# Altium integrated library Infineon_Sensor_IC.IntLib: 87 symbols (part 2 of 3)
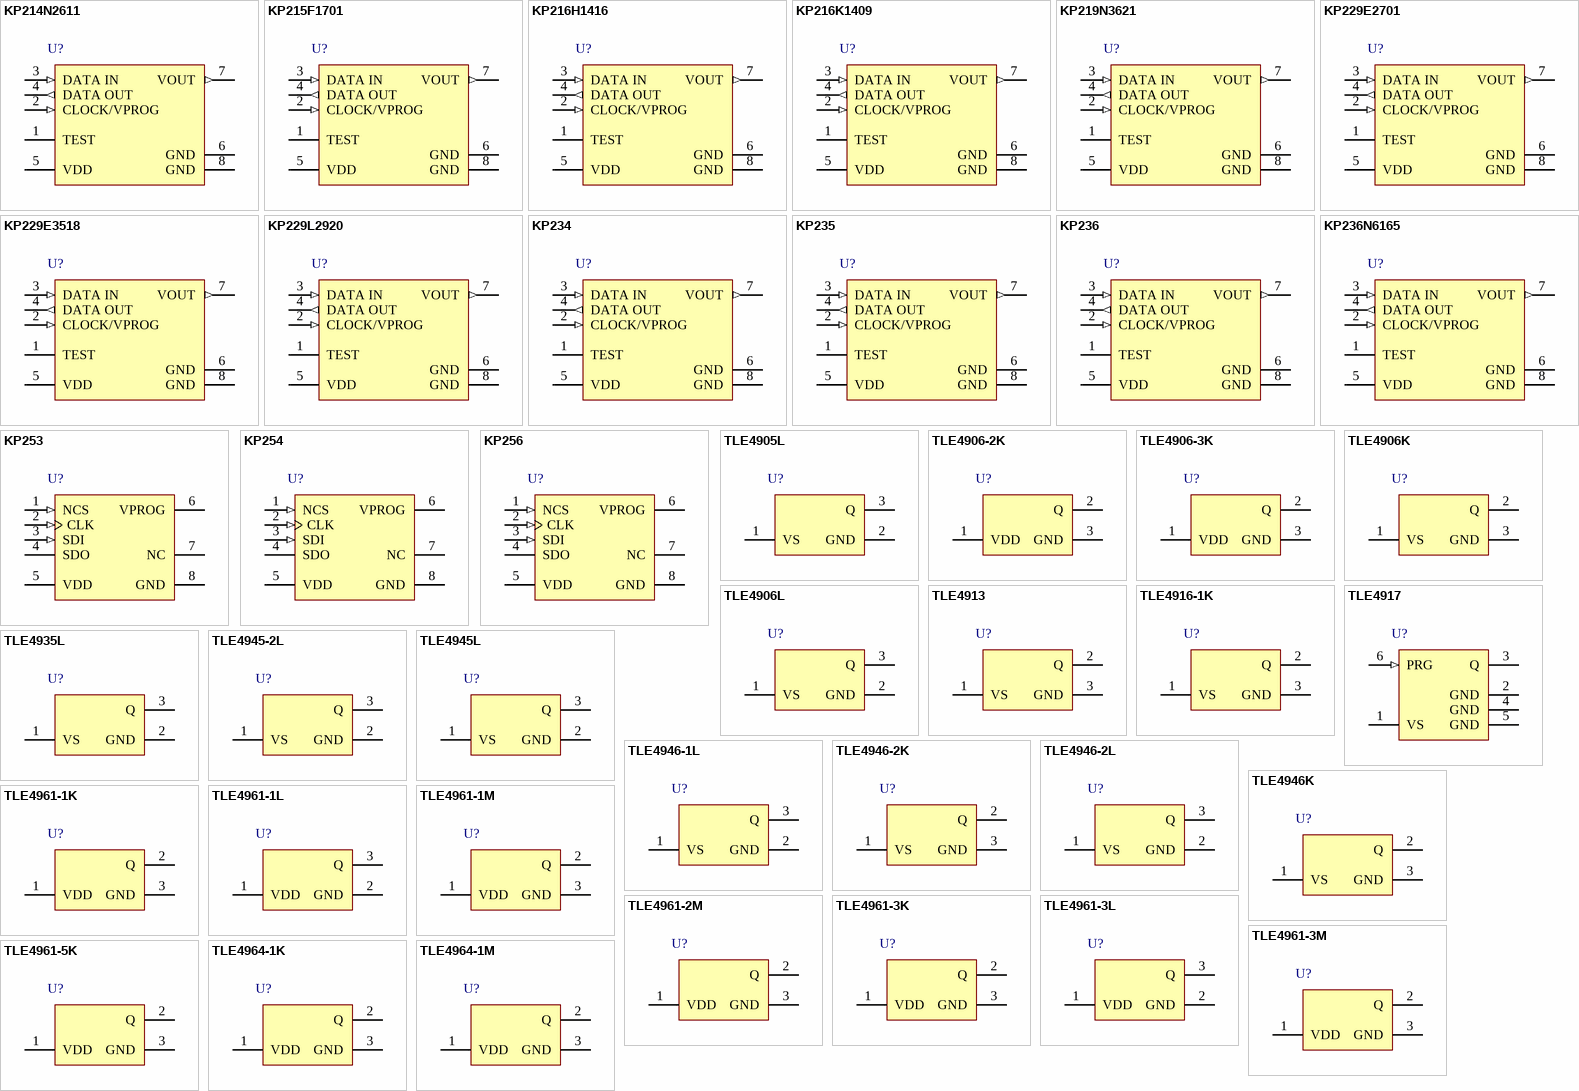
[diagram p3: symbols KP214N2611 to TLE4964-1M]

## TLE4961-2M
designator U?
High Precision Automotive Hall Effect Latch, PG-SOT23-3-15, Reel, Green; Manufacturer: Infineon; PartNumber: TLE4961-2M; Bhyst (25degreesC) max: 10 mT; Bop (25degreesC) min: 5 mT; Chopped Hall Technology: TRUE; Direction Detection: FALSE; Interface: open collector; DatasheetVersion: Rev. 1.0; PackageVersion: Apr-08; PackageReference: PG-SOT23-3-15; PackageDescription: 3-Pin Small Outline Transistor Package, 2.9 x 1.3 mm Body, 0.95 mm Pitch; Brp (25degreesC) typ: 5 mT; Green: TRUE; Halogen-free: TRUE; Packing: Reel; Target Application: Automotive; Type: Latch; Mounting Technology: Surface Mount; ComponentLink1Description: Manufacturer URL; ComponentLink1URL: http://www.infineon.com/; ComponentLink2Description: Datasheet; ComponentLink2URL: http://www.infineon.com/dgdl/TLE4961-2M_FinalDS_Rev1.pdf?folderId=db3a30431ce5fb52011d29818c631b6b&fileId=db3a30433cabdd35013cc965173b6517; ComponentLink3Description: Package Specification; ComponentLink3URL: http://www.infineon.com/dgdl/SOT23-Package_Overview.pdf?folderId=db3a30431936bc4b0119532290053c66&fileId=db3a30431936bc4b0119533468123c85
footprint INF-PG-SOT23-3-15_N (SOT23, 3-Leads, Body 2.9x1.3mm, Pitch 0.95mm, IPC Medium Density)
footprint INF-PG-SOT23-3-15_L (SOT23, 3-Leads, Body 2.9x1.3mm, Pitch 0.95mm, IPC High Density)
footprint INF-PG-SOT23-3-15_M (SOT23, 3-Leads, Body 2.9x1.3mm, Pitch 0.95mm, IPC Low Density)
pins: 1 VDD (power) "Supply voltage", 2 Q (oc) "Output", 3 GND (power) "Ground"

## TLE4961-3K
designator U?
High Precision Automotive Hall Effect Latch, -40 to 170 degC, PG-SC59, Reel, Green; Manufacturer: Infineon; PartNumber: TLE4961-3K; Bhyst (25degreesC) max: 15.0 mT; Bop (25degreesC) min: 7.5 mT; Brp (25degreesC) typ: -7.5 mT; Chopped Hall Technology: TRUE; Direction Detection: FALSE; Interface: open collector; DatasheetVersion: Rev. 1.0; PackageVersion: Mar-08; PackageReference: PG-SC59; PackageDescription: 3-Pin Semiconductor Package, 3 x 1.53 mm Body, 0.95 mm Pitch; Green: TRUE; Halogen-free: TRUE; Packing: Reel; Target Application: Automotive; Type: Latch; Mounting Technology: Surface Mount; ComponentLink1Description: Manufacturer URL; ComponentLink1URL: http://www.infineon.com/; ComponentLink2Description: Datasheet; ComponentLink2URL: http://www.infineon.com/dgdl/TLE4961-3K_DS_Rev1.0.pdf?folderId=db3a30431ce5fb52011d29818c631b6b&fileId=db3a3043397219b601397247ed8d0030; ComponentLink3Description: Package Specification; ComponentLink3URL: http://www.infineon.com/dgdl/SC59-Package_Overview.pdf?folderId=db3a30431936bc4b01194dc0d34440b0&fileId=db3a30431936bc4b01194dd1aa1d40cf
footprint INF-PG-SC59_N (SOT23, 3-Leads, Body 3x1.53mm, Pitch 0.95mm, IPC Medium Density)
footprint INF-PG-SC59_L (SOT23, 3-Leads, Body 3x1.53mm, Pitch 0.95mm, IPC High Density)
footprint INF-PG-SC59_M (SOT23, 3-Leads, Body 3x1.53mm, Pitch 0.95mm, IPC Low Density)
pins: 1 VDD (power) "Supply voltage", 2 Q (oc) "Output", 3 GND (power) "Ground"

## TLE4961-3L
designator U?
High Precision Automotive Hall Effect Latch, -40 to 170 degC, PG-SSO-3-2, AMMO-PACK, Green; Manufacturer: Infineon; PartNumber: TLE4961-3L; Bhyst (25degreesC) max: 15 mT; Bop (25degreesC) min: 7.5 mT; Brp (25degreesC) typ: -7.5 mT; Chopped Hall Technology: TRUE; Direction Detection: FALSE; Interface: open collector; DatasheetVersion: Rev. 1.0; PackageVersion: Jul-12; PackageReference: PG-SSO-3-2; PackageDescription: 3-Pin Plastic (Green) Single Small Outline, 4.16 x 3.29 mm Body, 1.27 mm Pitch; Green: TRUE; Packing: AMMO-PACK; Target Application: Automotive; Type: Latch; Mounting Technology: Through Hole; ComponentLink1Description: Manufacturer URL; ComponentLink1URL: http://www.infineon.com/; ComponentLink2Description: Datasheet; ComponentLink2URL: http://www.infineon.com/dgdl/TLE4961-3L_DS_Rev1.pdf?folderId=db3a30431ce5fb52011d29818c631b6b&fileId=db3a30433899edae0138c3c365920311; ComponentLink3Description: Package Specification; ComponentLink3URL: http://www.infineon.com/dgdl/TLE4961-1L_DS_Rev1.0.pdf?folderId=db3a30431ce5fb52011d29818c631b6b&fileId=db3a3043397219b6013977b435505444
footprint INF-PG-SSO-3-2_V (SSO, 3-Leads, Body 4.16x3.29mm, Pitch 1.27mm)
pins: 1 VDD (power) "Supply voltage", 2 GND (power) "Ground", 3 Q (oc) "Output"

## TLE4961-3M
designator U?
High Precision Automotive Hall Effect Latch, -40 to 170 degC, PG-SOT23-3-15, Reel, Green; Manufacturer: Infineon; PartNumber: TLE4961-3M; Bhyst (25degreesC) max: 15 mT; Bop (25degreesC) min: 7.5 mT; Brp (25degreesC) typ: -7.5 mT; Chopped Hall Technology: TRUE; Direction Detection: FALSE; Interface: open collector; DatasheetVersion: Rev. 1.0; PackageVersion: Apr-08; PackageReference: PG-SOT23-3-15; PackageDescription: 3-Pin Small Outline Transistor Package, 2.9 x 1.3 mm Body, 0.95 mm Pitch; Green: TRUE; Halogen-free: TRUE; Packing: Reel; Target Application: Automotive; Type: Latch; Mounting Technology: Surface Mount; ComponentLink1Description: Manufacturer URL; ComponentLink1URL: http://www.infineon.com/; ComponentLink2Description: Datasheet; ComponentLink2URL: http://www.infineon.com/dgdl/TLE4961-3M_DS_Rev1.0.pdf?folderId=db3a30431ce5fb52011d29818c631b6b&fileId=db3a304338ec6d390138fc7ad91376ac; ComponentLink3Description: Package Specification; ComponentLink3URL: http://www.infineon.com/dgdl/SOT23-Package_Overview.pdf?folderId=db3a30431936bc4b0119532290053c66&fileId=db3a30431936bc4b0119533468123c85
footprint INF-PG-SOT23-3-15_N (SOT23, 3-Leads, Body 2.9x1.3mm, Pitch 0.95mm, IPC Medium Density)
footprint INF-PG-SOT23-3-15_L (SOT23, 3-Leads, Body 2.9x1.3mm, Pitch 0.95mm, IPC High Density)
footprint INF-PG-SOT23-3-15_M (SOT23, 3-Leads, Body 2.9x1.3mm, Pitch 0.95mm, IPC Low Density)
pins: 1 VDD (power) "Supply voltage", 2 Q (oc) "Output", 3 GND (power) "Ground"

## TLE4961-5K
designator U?
High Precision Automotive Hall Effect Latch, -40 to 170 degC, PG-SC59, Reel, Green; Manufacturer: Infineon; PartNumber: TLE4961-5K; Bhyst (25degreesC) max: 30 mT; Bop (25degreesC) min: 15 mT; Brp (25degreesC) typ: -15 mT; Chopped Hall Technology: TRUE; Direction Detection: FALSE; Interface: open collector; DatasheetVersion: Rev. 1.0; PackageVersion: Mar-08; PackageReference: PG-SC59; PackageDescription: 3-Pin Semiconductor Package, 3 x 1.53 mm Body, 0.95 mm Pitch; Green: TRUE; Halogen-free: TRUE; Packing: Reel; Target Application: Automotive; Type: Latch; Mounting Technology: Surface Mount; ComponentLink1Description: Manufacturer URL; ComponentLink1URL: http://www.infineon.com/; ComponentLink2Description: Datasheet; ComponentLink2URL: http://www.infineon.com/dgdl/TLE4961-5K_DS_Rev1.0.pdf?folderId=db3a30431ce5fb52011d29818c631b6b&fileId=db3a304338ec6d390138fc81f56e76bb; ComponentLink3Description: Package Specification; ComponentLink3URL: http://www.infineon.com/dgdl/SC59-Package_Overview.pdf?folderId=db3a30431936bc4b01194dc0d34440b0&fileId=db3a30431936bc4b01194dd1aa1d40cf
footprint INF-PG-SC59_N (SOT23, 3-Leads, Body 3x1.53mm, Pitch 0.95mm, IPC Medium Density)
footprint INF-PG-SC59_L (SOT23, 3-Leads, Body 3x1.53mm, Pitch 0.95mm, IPC High Density)
footprint INF-PG-SC59_M (SOT23, 3-Leads, Body 3x1.53mm, Pitch 0.95mm, IPC Low Density)
pins: 1 VDD (power) "Supply voltage", 2 Q (oc) "Output", 3 GND (power) "Ground"

## TLE4964-1K
designator U?
High Precision Automotive Hall Effect Switch, -40 to 170 degC, PG-SC59, Reel, Green; Manufacturer: Infineon; PartNumber: TLE4964-1K; Bhyst (25degreesC) max: 5.5 mT; Bop (25degreesC) min: 18 mT; Brp (25degreesC) typ: 12.5 mT; Chopped Hall Technology: TRUE; Direction Detection: FALSE; Interface: open collector; DatasheetVersion: Rev. 1.0; PackageVersion: Mar-08; PackageReference: PG-SC59; PackageDescription: 3-Pin Semiconductor Package, 3 x 1.53 mm Body, 0.95 mm Pitch; Green: TRUE; Halogen-free: TRUE; Packing: Reel; Target Application: Automotive; Type: Unipolar; Mounting Technology: Surface Mount; ComponentLink1Description: Manufacturer URL; ComponentLink1URL: http://www.infineon.com/; ComponentLink2Description: Datasheet; ComponentLink2URL: http://www.infineon.com/dgdl/TLE4964-1K_DS_Rev1.0.pdf?folderId=db3a30431ce5fb52011d29818c631b6b&fileId=db3a304338ec6d390138fc87bfb376c5; ComponentLink3Description: Package Specification; ComponentLink3URL: http://www.infineon.com/dgdl/SC59-Package_Overview.pdf?folderId=db3a30431936bc4b01194dc0d34440b0&fileId=db3a30431936bc4b01194dd1aa1d40cf
footprint INF-PG-SC59_N (SOT23, 3-Leads, Body 3x1.53mm, Pitch 0.95mm, IPC Medium Density)
footprint INF-PG-SC59_L (SOT23, 3-Leads, Body 3x1.53mm, Pitch 0.95mm, IPC High Density)
footprint INF-PG-SC59_M (SOT23, 3-Leads, Body 3x1.53mm, Pitch 0.95mm, IPC Low Density)
pins: 1 VDD (power) "Supply voltage", 2 Q (oc) "Output", 3 GND (power) "Ground"

## TLE4964-1M
designator U?
High Precision Automotive Hall Effect Switch, -40 to 170 degC, PG-SOT23-3-15, Reel, Green; Manufacturer: Infineon; PartNumber: TLE4964-1M; Bhyst (25degreesC) max: 5.5 mT; Bop (25degreesC) min: 18 mT; Brp (25degreesC) typ: 12.5 mT; Chopped Hall Technology: TRUE; Direction Detection: FALSE; Interface: open collector; DatasheetVersion: Rev. 1.0; PackageVersion: Apr-08; PackageReference: PG-SOT23-3-15; PackageDescription: 3-Pin Small Outline Transistor Package, 2.9 x 1.3 mm Body, 0.95 mm Pitch; Green: TRUE; Halogen-free: TRUE; Packing: Reel; Target Application: Automotive; Type: Unipolar; Mounting Technology: Surface Mount; ComponentLink1Description: Manufacturer URL; ComponentLink1URL: http://www.infineon.com/; ComponentLink2Description: Datasheet; ComponentLink2URL: http://www.infineon.com/dgdl/TLE4964-1M_DS_Rev1.0.pdf?folderId=db3a30431ce5fb52011d29818c631b6b&fileId=db3a3043397219b601397256e86f0059; ComponentLink3Description: Package Specification; ComponentLink3URL: http://www.infineon.com/dgdl/SOT23-Package_Overview.pdf?folderId=db3a30431936bc4b0119532290053c66&fileId=db3a30431936bc4b0119533468123c85
footprint INF-PG-SOT23-3-15_N (SOT23, 3-Leads, Body 2.9x1.3mm, Pitch 0.95mm, IPC Medium Density)
footprint INF-PG-SOT23-3-15_L (SOT23, 3-Leads, Body 2.9x1.3mm, Pitch 0.95mm, IPC High Density)
footprint INF-PG-SOT23-3-15_M (SOT23, 3-Leads, Body 2.9x1.3mm, Pitch 0.95mm, IPC Low Density)
pins: 1 VDD (power) "Supply voltage", 2 Q (oc) "Output", 3 GND (power) "Ground"

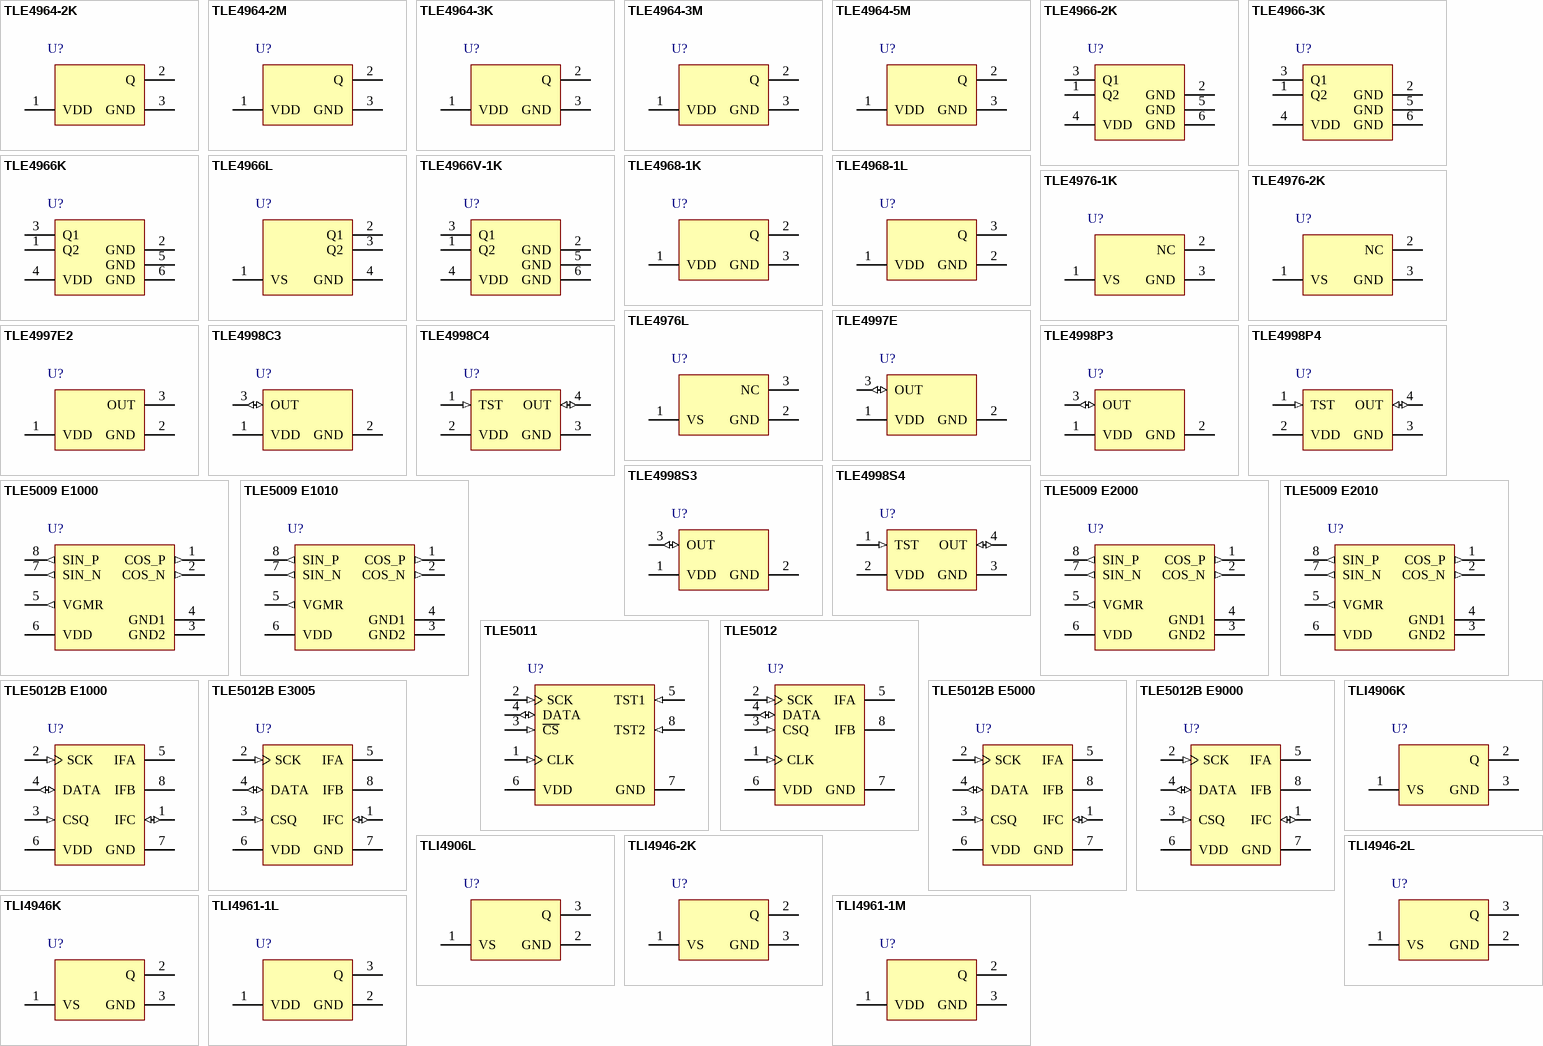
[diagram p1: symbols TLE4964-2K to TLI4961-1M]

## TLE4964-2K
designator U?
High Precision Automotive Hall Effect Switch, -40 to 170 degC, PG-SC59, Reel, Green; Manufacturer: Infineon; PartNumber: TLE4964-2K; Bhyst (25degreesC) max: 5.5 mT; Bop (25degreesC) min: 28 mT; Brp (25degreesC) typ: 22.5 mT; Chopped Hall Technology: TRUE; Direction Detection: FALSE; Interface: open collector; DatasheetVersion: Rev. 1.0; PackageVersion: Mar-08; PackageReference: PG-SC59; PackageDescription: 3-Pin Semiconductor Package, 3 x 1.53 mm Body, 0.95 mm Pitch; Green: TRUE; Halogen-free: TRUE; Packing: Reel; Target Application: Automotive; Type: Unipolar; Mounting Technology: Surface Mount; ComponentLink1Description: Manufacturer URL; ComponentLink1URL: http://www.infineon.com/; ComponentLink2Description: Datasheet; ComponentLink2URL: http://www.infineon.com/dgdl/TLE4964-2K_DS_Rev1.0.pdf?folderId=db3a30431ce5fb52011d29818c631b6b&fileId=db3a3043397219b60139725a64720065; ComponentLink3Description: Package Specification; ComponentLink3URL: http://www.infineon.com/dgdl/SC59-Package_Overview.pdf?folderId=db3a30431936bc4b01194dc0d34440b0&fileId=db3a30431936bc4b01194dd1aa1d40cf
footprint INF-PG-SC59_N (SOT23, 3-Leads, Body 3x1.53mm, Pitch 0.95mm, IPC Medium Density)
footprint INF-PG-SC59_L (SOT23, 3-Leads, Body 3x1.53mm, Pitch 0.95mm, IPC High Density)
footprint INF-PG-SC59_M (SOT23, 3-Leads, Body 3x1.53mm, Pitch 0.95mm, IPC Low Density)
pins: 1 VDD (power) "Supply voltage", 2 Q (oc) "Output", 3 GND (power) "Ground"

## TLE4964-2M
designator U?
High Precision Automotive Hall Effect Switch, -40 to 170 degC, PG-SOT23-3-15, Reel, Green; Manufacturer: Infineon; PartNumber: TLE4964-2M; Bhyst (25degreesC) max: 5.5 mT; Bop (25degreesC) min: 28 mT; Brp (25degreesC) typ: 22.5 mT; Chopped Hall Technology: TRUE; Direction Detection: FALSE; Interface: open collector; DatasheetVersion: Rev. 1.0; PackageVersion: Apr-08; PackageReference: PG-SOT23-3-15; PackageDescription: 3-Pin Small Outline Transistor Package, 2.9 x 1.3 mm Body, 0.95 mm Pitch; Green: TRUE; Halogen-free: TRUE; Packing: Reel; Target Application: Automotive; Type: Unipolar; Mounting Technology: Surface Mount; ComponentLink1Description: Manufacturer URL; ComponentLink1URL: http://www.infineon.com/; ComponentLink2Description: Datasheet; ComponentLink2URL: http://www.infineon.com/dgdl/TLE4964-2M_DS_Rev1.0.pdf?folderId=db3a30431ce5fb52011d29818c631b6b&fileId=db3a3043397219b60139725f709a006f; ComponentLink3Description: Package Specification; ComponentLink3URL: http://www.infineon.com/dgdl/SOT23-Package_Overview.pdf?folderId=db3a30431936bc4b0119532290053c66&fileId=db3a30431936bc4b0119533468123c85
footprint INF-PG-SOT23-3-15_N (SOT23, 3-Leads, Body 2.9x1.3mm, Pitch 0.95mm, IPC Medium Density)
footprint INF-PG-SOT23-3-15_L (SOT23, 3-Leads, Body 2.9x1.3mm, Pitch 0.95mm, IPC High Density)
footprint INF-PG-SOT23-3-15_M (SOT23, 3-Leads, Body 2.9x1.3mm, Pitch 0.95mm, IPC Low Density)
pins: 1 VDD (power) "Supply voltage", 2 Q (oc) "Output", 3 GND (power) "Ground"

## TLE4964-3K
designator U?
High Precision Automotive Hall Effect Switch, -40 to 170 degC, PG-SC59, Reel, Green; Manufacturer: Infineon; PartNumber: TLE4964-3K; Bhyst (25degreesC) max: 3 mT; Bop (25degreesC) min: 12.5 mT; Brp (25degreesC) typ: 9.5 mT; Chopped Hall Technology: TRUE; Direction Detection: FALSE; Interface: open collector; DatasheetVersion: Rev. 1.0; PackageVersion: Mar-08; PackageReference: PG-SC59; PackageDescription: 3-Pin Semiconductor Package, 3 x 1.53 mm Body, 0.95 mm Pitch; Green: TRUE; Halogen-free: TRUE; Packing: Reel; Target Application: Automotive; Type: Unipolar; Mounting Technology: Surface Mount; ComponentLink1Description: Manufacturer URL; ComponentLink1URL: http://www.infineon.com/; ComponentLink2Description: Datasheet; ComponentLink2URL: http://www.infineon.com/dgdl/TLE4964-3K_DS_Rev1.0.pdf?folderId=db3a30431ce5fb52011d29818c631b6b&fileId=db3a3043397219b60139779f2b9f5404; ComponentLink3Description: Package Specification; ComponentLink3URL: http://www.infineon.com/dgdl/SC59-Package_Overview.pdf?folderId=db3a30431936bc4b01194dc0d34440b0&fileId=db3a30431936bc4b01194dd1aa1d40cf
footprint INF-PG-SC59_N (SOT23, 3-Leads, Body 3x1.53mm, Pitch 0.95mm, IPC Medium Density)
footprint INF-PG-SC59_L (SOT23, 3-Leads, Body 3x1.53mm, Pitch 0.95mm, IPC High Density)
footprint INF-PG-SC59_M (SOT23, 3-Leads, Body 3x1.53mm, Pitch 0.95mm, IPC Low Density)
pins: 1 VDD (power) "Supply voltage", 2 Q (oc) "Output", 3 GND (power) "Ground"

## TLE4964-3M
designator U?
High Precision Automotive Hall Effect Switch, -40 to 170 degC, PG-SOT23-3-15, Reel, Green; Manufacturer: Infineon; PartNumber: TLE4964-3M; Bhyst (25degreesC) max: 3 mT; Bop (25degreesC) min: 12.5 mT; Brp (25degreesC) typ: 9.5 mT; Chopped Hall Technology: TRUE; Direction Detection: FALSE; Interface: open collector; DatasheetVersion: Rev. 1.0; PackageVersion: Apr-08; PackageReference: PG-SOT23-3-15; PackageDescription: 3-Pin Small Outline Transistor Package, 2.9 x 1.3 mm Body, 0.95 mm Pitch; Green: TRUE; Halogen-free: TRUE; Packing: Reel; Target Application: Automotive; Type: Unipolar; Mounting Technology: Surface Mount; ComponentLink1Description: Manufacturer URL; ComponentLink1URL: http://www.infineon.com/; ComponentLink2Description: Datasheet; ComponentLink2URL: http://www.infineon.com/dgdl/TLE4964-3M_FinalDS_Rev1.pdf?folderId=db3a30431ce5fb52011d29818c631b6b&fileId=db3a30433cabdd35013cc94b7c0f64f9; ComponentLink3Description: Package Specification; ComponentLink3URL: http://www.infineon.com/dgdl/SOT23-Package_Overview.pdf?folderId=db3a30431936bc4b0119532290053c66&fileId=db3a30431936bc4b0119533468123c85
footprint INF-PG-SOT23-3-15_N (SOT23, 3-Leads, Body 2.9x1.3mm, Pitch 0.95mm, IPC Medium Density)
footprint INF-PG-SOT23-3-15_L (SOT23, 3-Leads, Body 2.9x1.3mm, Pitch 0.95mm, IPC High Density)
footprint INF-PG-SOT23-3-15_M (SOT23, 3-Leads, Body 2.9x1.3mm, Pitch 0.95mm, IPC Low Density)
pins: 1 VDD (power) "Supply voltage", 2 Q (oc) "Output", 3 GND (power) "Ground"

## TLE4964-5M
designator U?
High Precision Automotive Hall Effect Switch, -40 to 170 degC, PG-SOT23-3-15, Reel, Green; Manufacturer: Infineon; PartNumber: TLE4964-5M; Bhyst (25degreesC) max: 2.5 mT; Bop (25degreesC) min: 7.5 mT; Brp (25degreesC) typ: 5 mT; Chopped Hall Technology: TRUE; Direction Detection: FALSE; Interface: open collector; DatasheetVersion: Rev. 1.0; PackageVersion: Apr-08; PackageReference: PG-SOT23-3-15; PackageDescription: 3-Pin Small Outline Transistor Package, 2.9 x 1.3 mm Body, 0.95 mm Pitch; Green: TRUE; Halogen-free: TRUE; Packing: Reel; Target Application: Automotive; Type: Unipolar; Mounting Technology: Surface Mount; ComponentLink1Description: Manufacturer URL; ComponentLink1URL: http://www.infineon.com/; ComponentLink2Description: Datasheet; ComponentLink2URL: http://www.infineon.com/dgdl/TLE4964-5M_FinalDS_Rev1.pdf?folderId=db3a30431ce5fb52011d29818c631b6b&fileId=db3a30433cabdd35013cc959c5666509; ComponentLink3Description: Package Specification; ComponentLink3URL: http://www.infineon.com/dgdl/SOT23-Package_Overview.pdf?folderId=db3a30431936bc4b0119532290053c66&fileId=db3a30431936bc4b0119533468123c85
footprint INF-PG-SOT23-3-15_N (SOT23, 3-Leads, Body 2.9x1.3mm, Pitch 0.95mm, IPC Medium Density)
footprint INF-PG-SOT23-3-15_L (SOT23, 3-Leads, Body 2.9x1.3mm, Pitch 0.95mm, IPC High Density)
footprint INF-PG-SOT23-3-15_M (SOT23, 3-Leads, Body 2.9x1.3mm, Pitch 0.95mm, IPC Low Density)
pins: 1 VDD (power) "Supply voltage", 2 Q (oc) "Output", 3 GND (power) "Ground"

## TLE4966-2K
designator U?
High Precision Hall Switch with Two Outputs, PG-TSOP6-6-5, Reel, Green; Manufacturer: Infineon; PartNumber: TLE4966-2K; Bhyst (25degreesC) max: 15 mT; Bop (25degreesC) min: 7.5 mT; Brp (25degreesC) typ: -7.5 mT; Chopped Hall Technology: TRUE; Direction Detection: FALSE; Interface: open collector; Target Application: Automotive; DatasheetVersion: Rev. 1.0; PackageVersion: Jun-10; PackageReference: PG-TSOP6-6-5; PackageDescription: 6-Pin Thin Small Outline Package, 2.9 x 1.6 mm Body, 0.95 mm Pitch; Supplier 1: Mouser; Supplier Part Number 1: 726-TLE4966-2K; Green: TRUE; Packing: Reel; Type: Latch; Mounting Technology: Surface Mount; ComponentLink1Description: Manufacturer URL; ComponentLink1URL: http://www.infineon.com/; ComponentLink2Description: Datasheet; ComponentLink2URL: http://www.infineon.com/dgdl/TLE4966-2K_Datasheet_Rev1.pdf?folderId=db3a30431ce5fb52011d29818c631b6b&fileId=db3a30432c64a60d012c839016d83e32; ComponentLink3Description: Package Specification; ComponentLink3URL: http://www.infineon.com/dgdl/TLE4966-2K_Datasheet_Rev1.pdf?folderId=db3a30431ce5fb52011d29818c631b6b&fileId=db3a30432c64a60d012c839016d83e32
footprint INF-PG-TSOP6-6-5_N (SOP, 6-Leads, Body 2.9x1.6mm, Pitch 0.95mm, IPC Medium Density)
footprint INF-PG-TSOP6-6-5_L (SOP, 6-Leads, Body 2.9x1.6mm, Pitch 0.95mm, IPC High Density)
footprint INF-PG-TSOP6-6-5_M (SOP, 6-Leads, Body 2.9x1.6mm, Pitch 0.95mm, IPC Low Density)
pins: 1 Q2 (oc) "Speed", 2 GND (power) "Recommended connection to GND", 3 Q1 (oc), 4 VDD (power) "Supply voltage", 5 GND (power) "Recommended connection to GND", 6 GND (power) "Ground"

## TLE4966-3K
designator U?
High Sensitivity Automotive Hall Switch with Direction Detection, PG-TSOP6-6-5, Reel, Green; Manufacturer: Infineon; PartNumber: TLE4966-3K; Bhyst (25degreesC) max: 5 mT; Bop (25degreesC) min: 2.5 mT; Brp (25degreesC) typ: -2.5 mT; Chopped Hall Technology: TRUE; Interface: open collector; DatasheetVersion: Rev. 1.0; PackageVersion: Jun-10; PackageReference: PG-TSOP6-6-5; PackageDescription: 6-Pin Thin Small Outline Package, 2.9 x 1.6 mm Body, 0.95 mm Pitch; Supplier 1: Mouser; Supplier Part Number 1: 726-TLE4966-3K; Direction Detection: TRUE; Green: TRUE; Packing: Reel; Target Application: Automotive; Type: Latch; Mounting Technology: Surface Mount; ComponentLink1Description: Manufacturer URL; ComponentLink1URL: http://www.infineon.com/; ComponentLink2Description: Datasheet; ComponentLink2URL: http://www.infineon.com/dgdl/TLE4966-3K_DS_Rev1.pdf?folderId=db3a30431ce5fb52011d29818c631b6b&fileId=db3a30432b57a660012ba0adf1880bb7; ComponentLink3Description: Package Specification; ComponentLink3URL: http://www.infineon.com/dgdl/TLE4966-2K_Datasheet_Rev1.pdf?folderId=db3a30431ce5fb52011d29818c631b6b&fileId=db3a30432c64a60d012c839016d83e32
footprint INF-PG-TSOP6-6-5_N (SOP, 6-Leads, Body 2.9x1.6mm, Pitch 0.95mm, IPC Medium Density)
footprint INF-PG-TSOP6-6-5_L (SOP, 6-Leads, Body 2.9x1.6mm, Pitch 0.95mm, IPC High Density)
footprint INF-PG-TSOP6-6-5_M (SOP, 6-Leads, Body 2.9x1.6mm, Pitch 0.95mm, IPC Low Density)
pins: 1 Q2 (oc) "Speed", 2 GND (power) "Recommended connection to GND", 3 Q1 (oc), 4 VDD (power) "Supply voltage", 5 GND (power) "Recommended connection to GND", 6 GND (power) "Ground"

## TLE4966K
designator U?
High Precision Hall-Effect Switch with Direction Detection, PG-TSOP6-6-5, Reel, Green; Manufacturer: Infineon; PartNumber: TLE4966K; Bhyst (25degreesC) max: 15 mT; Bop (25degreesC) min: 7.5 mT; Brp (25degreesC) typ: -7.5 mT; Chopped Hall Technology: TRUE; Interface: open collector; Target Application: Automotive; DatasheetVersion: Rev. 1.0; PackageVersion: Jun-10; PackageReference: PG-TSOP6-6-5; PackageDescription: 6-Pin Thin Small Outline Package, 2.9 x 1.6 mm Body, 0.95 mm Pitch; Supplier 1: Mouser; Supplier Part Number 1: 726-TLE4966K; Supplier 2: Digi-Key; Supplier Part Number 2: TLE4966K-ND; Direction Detection: TRUE; Green: TRUE; Packing: Reel; Type: Latch; Mounting Technology: Surface Mount; ComponentLink1Description: Manufacturer URL; ComponentLink1URL: http://www.infineon.com/; ComponentLink2Description: Datasheet; ComponentLink2URL: http://www.infineon.com/dgdl/TLE4966K_DS_Rev1.pdf?folderId=db3a30431f848401011facc1c83b4674&fileId=db3a30431f848401011fbc945ed46383; ComponentLink3Description: Package Specification; ComponentLink3URL: http://www.infineon.com/dgdl/TLE4966-2K_Datasheet_Rev1.pdf?folderId=db3a30431ce5fb52011d29818c631b6b&fileId=db3a30432c64a60d012c839016d83e32
footprint INF-PG-TSOP6-6-5_N (SOP, 6-Leads, Body 2.9x1.6mm, Pitch 0.95mm, IPC Medium Density)
footprint INF-PG-TSOP6-6-5_L (SOP, 6-Leads, Body 2.9x1.6mm, Pitch 0.95mm, IPC High Density)
footprint INF-PG-TSOP6-6-5_M (SOP, 6-Leads, Body 2.9x1.6mm, Pitch 0.95mm, IPC Low Density)
pins: 1 Q2 (oc) "Speed", 2 GND (power) "Recommended connection to GND", 3 Q1 (oc), 4 VDD (power) "Supply voltage", 5 GND (power) "Recommended connection to GND", 6 GND (power) "Ground"

## TLE4966L
designator U?
High Precision Hall-Effect Switch with Direction Detection, PG-SSO-4-1, AMMO-PACK, Green; Manufacturer: Infineon; PartNumber: TLE4966L; Bhyst (25degreesC) max: 15 mT; Bop (25degreesC) min: 7.5 mT; Brp (25degreesC) typ: -7.5 mT; Chopped Hall Technology: TRUE; Interface: open collector; Target Application: Automotive; DatasheetVersion: Rev. 2.0; PackageReference: PG-SSO-4-1; PackageDescription: 4-Pin Plastic (Green) Single Small Outline, 5.34 x 3.71 mm Body, 1.27 mm Pitch; Supplier 1: Mouser; Supplier Part Number 1: 726-TLE4966L; Supplier 2: Digi-Key; Supplier Part Number 2: TLE4966L-ND; Direction Detection: TRUE; Green: TRUE; Packing: AMMO-PACK; Type: Latch; Mounting Technology: Through Hole; ComponentLink1Description: Manufacturer URL; ComponentLink1URL: http://www.infineon.com/; ComponentLink2Description: Datasheet; ComponentLink2URL: http://www.infineon.com/dgdl/TLE4966L_DS_Rev2.pdf?folderId=db3a30431689f4420116a096e1db033e&fileId=db3a304319c6f18c0119cd85b86f7ad7; ComponentLink3Description: Package Specification; ComponentLink3URL: http://www.infineon.com/cms/packages/Leaded_and_through-hole/P-PG-SSO/PG-SSO-4-1.html?__locale=en
footprint INF-PG-SSO-4-1_V (SSO, 4-Leads, Body 5.34x3.71mm, Pitch 1.27mm)
pins: 1 VS (power) "Supply voltage", 2 Q1 (oc) "Direction", 3 Q2 (oc) "Speed", 4 GND (power) "Ground"

## TLE4966V-1K
designator U?
In Plane Sensing with Vertical Dual Hall Effect Latch for Automotive Applications, -40 to 150 degC, PG-TSOP6-6, Reel, Green; Manufacturer: Infineon; PartNumber: TLE4966V-1K; Brp (25degreesC) min/typ/max: -2.5 mT; Chopped Hall Technology: TRUE; Interface: open collector; DatasheetVersion: Rev. 1.1; PackageVersion: Jun-10; PackageReference: PG-TSOP6-6-5; PackageDescription: 6-Pin Thin Small Outline Package, 2.9 x 1.6 mm Body, 0.95 mm Pitch; Supplier 1: Mouser; Supplier Part Number 1: N/A; Direction Detection: TRUE; Green: TRUE; Packing: Reel; Target Application: Automotive; Type: Latch; Mounting Technology: Surface Mount; ComponentLink1Description: Manufacturer URL; ComponentLink1URL: http://www.infineon.com/; ComponentLink2Description: Datasheet; ComponentLink2URL: http://www.infineon.com/dgdl/Infineon-Hall_Switches_TLE4966V-TPD-v1.1-en.pdf.pdf?folderId=db3a30431ce5fb52011d29818c631b6b&fileId=db3a304342c787030142dc067a69152e; ComponentLink3Description: Package Specification; ComponentLink3URL: http://www.infineon.com/cms/packages/SMD_-_Surface_Mounted_Devices/TSOP/TSOP6.html?__locale=en
footprint INF-PG-TSOP6-6-5_N (SOP, 6-Leads, Body 2.9x1.6mm, Pitch 0.95mm, IPC Medium Density)
footprint INF-PG-TSOP6-6-5_L (SOP, 6-Leads, Body 2.9x1.6mm, Pitch 0.95mm, IPC High Density)
footprint INF-PG-TSOP6-6-5_M (SOP, 6-Leads, Body 2.9x1.6mm, Pitch 0.95mm, IPC Low Density)
pins: 1 Q2 (oc) "Speed", 2 GND (power) "Recommended connection to GND", 3 Q1 (oc), 4 VDD (power) "Supply voltage", 5 GND (power) "Recommended connection to GND", 6 GND (power) "Ground"

## TLE4968-1K
designator U?
High Precision Automotive Hall Effect Switch, -40 to 170 degC, PG-SC59, Reel, Green; Manufacturer: Infineon; PartNumber: TLE4968-1K; Bhyst (25degreesC) max: 2 mT; Bop (25degreesC) min: 1 mT; Brp (25degreesC) typ: -1 mT; Chopped Hall Technology: TRUE; Direction Detection: FALSE; Interface: open collector; DatasheetVersion: Rev. 1.0; PackageVersion: Mar-08; PackageReference: PG-SC59; PackageDescription: 3-Pin Semiconductor Package, 3 x 1.53 mm Body, 0.95 mm Pitch; Green: TRUE; Halogen-free: TRUE; Packing: Reel; Target Application: Automotive; Type: Bipolar Switch; Mounting Technology: Surface Mount; ComponentLink1Description: Manufacturer URL; ComponentLink1URL: http://www.infineon.com/; ComponentLink2Description: Datasheet; ComponentLink2URL: http://www.infineon.com/dgdl/TLE4968-1K_DS_Rev1.0.pdf?folderId=db3a30431ce5fb52011d29818c631b6b&fileId=db3a3043397219b6013977a3fb29541c; ComponentLink3Description: Package Specification; ComponentLink3URL: http://www.infineon.com/dgdl/SC59-Package_Overview.pdf?folderId=db3a30431936bc4b01194dc0d34440b0&fileId=db3a30431936bc4b01194dd1aa1d40cf
footprint INF-PG-SC59_N (SOT23, 3-Leads, Body 3x1.53mm, Pitch 0.95mm, IPC Medium Density)
footprint INF-PG-SC59_L (SOT23, 3-Leads, Body 3x1.53mm, Pitch 0.95mm, IPC High Density)
footprint INF-PG-SC59_M (SOT23, 3-Leads, Body 3x1.53mm, Pitch 0.95mm, IPC Low Density)
pins: 1 VDD (power) "Supply voltage", 2 Q (oc) "Output", 3 GND (power) "Ground"

## TLE4968-1L
designator U?
High Precision Automotive Hall Effect Switch, -40 to 170 degC, PG-SSO-3-2, AMMO-PACK, Green; Manufacturer: Infineon; PartNumber: TLE4968-1L; Bhyst (25degreesC) max: 2 mT; Bop (25degreesC) min: 1 mT; Brp (25degreesC) typ: -1 mT; Chopped Hall Technology: TRUE; Direction Detection: FALSE; Interface: open collector; DatasheetVersion: Rev. 1.0; PackageVersion: Jul-12; PackageReference: PG-SSO-3-2; PackageDescription: 3-Pin Plastic (Green) Single Small Outline, 4.16 x 3.29 mm Body, 1.27 mm Pitch; Green: TRUE; Packing: AMMO-PACK; Target Application: Automotive; Type: Omnipolar Switch; Mounting Technology: Through Hole; ComponentLink1Description: Manufacturer URL; ComponentLink1URL: http://www.infineon.com/; ComponentLink2Description: Datasheet; ComponentLink2URL: http://www.infineon.com/dgdl/TLE4968-1L_DS_Rev1.0.pdf?folderId=db3a30431ce5fb52011d29818c631b6b&fileId=db3a30433899edae0138c3bcb66c0304; ComponentLink3Description: Package Specification; ComponentLink3URL: http://www.infineon.com/dgdl/TLE4961-1L_DS_Rev1.0.pdf?folderId=db3a30431ce5fb52011d29818c631b6b&fileId=db3a3043397219b6013977b435505444
footprint INF-PG-SSO-3-2_V (SSO, 3-Leads, Body 4.16x3.29mm, Pitch 1.27mm)
pins: 1 VDD (power) "Supply voltage", 2 GND (power) "Ground", 3 Q (oc) "Output"

## TLE4976-1K
designator U?
High Precision Hall Effect Switch with Current Interface, -40 to 150 degC, PG-SC59, Reel, Green; Manufacturer: Infineon; PartNumber: TLE4976-1K; Bhyst (25degreesC) max: 2 mT; Bop (25degreesC) min: 9.25 mT; Brp (25degreesC) typ: 7.25 mT; Chopped Hall Technology: TRUE; Direction Detection: FALSE; Target Application: Automotive; DatasheetVersion: Rev. 2.0; PackageVersion: Mar-08; PackageReference: PG-SC59; PackageDescription: 3-Pin Semiconductor Package, 3 x 1.53 mm Body, 0.95 mm Pitch; Supplier 1: Mouser; Supplier Part Number 1: 726-TLE49761K; Supplier 2: Digi-Key; Supplier Part Number 2: TLE4976-1K-ND; Green: TRUE; Interface: current interface; Packing: Reel; Type: Unipolar; Mounting Technology: Surface Mount; ComponentLink1Description: Manufacturer URL; ComponentLink1URL: http://www.infineon.com/; ComponentLink2Description: Datasheet; ComponentLink2URL: http://www.infineon.com/dgdl/TLE4976_DS_Rev2.pdf?folderId=db3a30431f848401011facc1c83b4674&fileId=db3a30431f848401011fbc96f7e56389; ComponentLink3Description: Package Specification; ComponentLink3URL: http://www.infineon.com/dgdl/SC59-Package_Overview.pdf?folderId=db3a30431936bc4b01194dc0d34440b0&fileId=db3a30431936bc4b01194dd1aa1d40cf
footprint INF-PG-SC59_N (SOT23, 3-Leads, Body 3x1.53mm, Pitch 0.95mm, IPC Medium Density)
footprint INF-PG-SC59_L (SOT23, 3-Leads, Body 3x1.53mm, Pitch 0.95mm, IPC High Density)
footprint INF-PG-SC59_M (SOT23, 3-Leads, Body 3x1.53mm, Pitch 0.95mm, IPC Low Density)
pins: 1 VS (power) "Supply voltage", 2 NC "No internal connection", 3 GND (power) "Ground"

## TLE4976-2K
designator U?
Hall Effect Switch with Current Interface, -40 to 150 degC, PG-SC59, Reel, Green; Manufacturer: Infineon; PartNumber: TLE4976-2K; Bhyst (25degreesC) max: 1.8 mT; Bop (25degreesC) min: 4.5 mT; Brp (25degreesC) typ: 2.7 mT; Chopped Hall Technology: TRUE; Direction Detection: FALSE; Target Application: Automotive; DatasheetVersion: Rev. 1.2; PackageVersion: Mar-08; PackageReference: PG-SC59; PackageDescription: 3-Pin Semiconductor Package, 3 x 1.53 mm Body, 0.95 mm Pitch; Supplier 1: Mouser; Supplier Part Number 1: 726-TLE49762K; Supplier 2: Digi-Key; Supplier Part Number 2: TLE4976-2K-ND; Green: TRUE; Interface: current interface; Packing: Reel; Type: Unipolar; Mounting Technology: Surface Mount; ComponentLink1Description: Manufacturer URL; ComponentLink1URL: http://www.infineon.com/; ComponentLink2Description: Datasheet; ComponentLink2URL: http://www.infineon.com/dgdl/TLE4976-2K_DS_Rev1.2.pdf?folderId=db3a30431ce5fb52011d29818c631b6b&fileId=db3a30432c59a87e012c5e9c3dc5351c; ComponentLink3Description: Package Specification; ComponentLink3URL: http://www.infineon.com/dgdl/SC59-Package_Overview.pdf?folderId=db3a30431936bc4b01194dc0d34440b0&fileId=db3a30431936bc4b01194dd1aa1d40cf
footprint INF-PG-SC59_N (SOT23, 3-Leads, Body 3x1.53mm, Pitch 0.95mm, IPC Medium Density)
footprint INF-PG-SC59_L (SOT23, 3-Leads, Body 3x1.53mm, Pitch 0.95mm, IPC High Density)
footprint INF-PG-SC59_M (SOT23, 3-Leads, Body 3x1.53mm, Pitch 0.95mm, IPC Low Density)
pins: 1 VS (power) "Supply voltage", 2 NC "No internal connection", 3 GND (power) "Ground"

## TLE4976L
designator U?
High Precision Hall Effect Switch with Current Interface, -40 to 150 degC, PG-SSO-3-2, AMMO-PACK, Green; Manufacturer: Infineon; PartNumber: TLE4976L; Bhyst (25degreesC) max: 2 mT; Bop (25degreesC) min: 6 mT; Brp (25degreesC) typ: 4 mT; Chopped Hall Technology: TRUE; Direction Detection: FALSE; Target Application: Automotive; DatasheetVersion: Rev. 2.0; PackageVersion: Jul-12; PackageReference: PG-SSO-3-2; PackageDescription: 3-Pin Plastic (Green) Single Small Outline, 4.16 x 3.29 mm Body, 1.27 mm Pitch; Supplier 1: Mouser; Supplier Part Number 1: 726-TLE4976L; Supplier 2: Digi-Key; Supplier Part Number 2: TLE4976L-ND; Green: TRUE; Interface: current interface; Packing: AMMO-PACK; Type: Unipolar; Mounting Technology: Through Hole; ComponentLink1Description: Manufacturer URL; ComponentLink1URL: http://www.infineon.com/; ComponentLink2Description: Datasheet; ComponentLink2URL: http://www.infineon.com/dgdl/TLE4976_DS_Rev2.pdf?folderId=db3a30431689f4420116a096e1db033e&fileId=db3a304319c6f18c0119cd9980a57ae7; ComponentLink3Description: Package Specification; ComponentLink3URL: http://www.infineon.com/dgdl/TLE4961-1L_DS_Rev1.0.pdf?folderId=db3a30431ce5fb52011d29818c631b6b&fileId=db3a3043397219b6013977b435505444
footprint INF-PG-SSO-3-2_V (SSO, 3-Leads, Body 4.16x3.29mm, Pitch 1.27mm)
pins: 1 VS (power) "Supply voltage", 2 GND (power) "Ground", 3 NC "No internal connection"

## TLE4997E
designator U?
Programmable Linear Hall Sensor, PG-SSO-3-10, AMMO-PACK, Green; Manufacturer: Infineon; PartNumber: TLE4997E; Green: TRUE; Interface: Analog; DatasheetVersion: Rev. 2.08; PackageVersion: V 2.08, 09/2008; PackageReference: PG-SSO-3-10; PackageDescription: 3-Pin Plastic (Green) Single Small Outline, 4.06 x 4.05 mm Body, 1.27 mm Pitch; Application: Linear Hall; Halogen-free: TRUE; Packing: AMMO-PACK; Programmable: TRUE; Mounting Technology: Through Hole; ComponentLink1Description: Manufacturer URL; ComponentLink1URL: http://www.infineon.com/; ComponentLink2Description: Datasheet; ComponentLink2URL: http://www.infineon.com/dgdl/TLE4997_Data_Sheet_v2.08.pdf?folderId=db3a30431ce5fb52011d3dd6e8012582&fileId=db3a30431ce5fb52011d3e4c832a2594; ComponentLink3Description: Package Specification; ComponentLink3URL: http://www.infineon.com/dgdl/TLE4997_Data_Sheet_v2.08.pdf?folderId=db3a30431ce5fb52011d3dd6e8012582&fileId=db3a30431ce5fb52011d3e4c832a2594
footprint INF-PG-SSO-3-10_V (SSO, 3-Leads, Body 4.06x4.05mm, Pitch 1.27mm)
pins: 1 VDD (power) "Supply voltage / programming interface", 2 GND (power) "Ground", 3 OUT (io) "Output / programming interface"

## TLE4997E2
designator U?
Programmable Linear Hall Sensor, -40 to 150 degC, PG-SSO-3, AMMO-PACK, Green; Manufacturer: Infineon; PartNumber: TLE4997E2; Green: TRUE; Group: Linear Hall & Current Sensors; Interface: Analog; DatasheetVersion: Rev. 2.08; PackageReference: PG-SSO-3-10; PackageDescription: 3-Pin Plastic (Green) Single Small Outline, 4.06 x 4.05 mm Body, 1.27 mm Pitch; Supplier 1: Digi-Key; Supplier Part Number 1: TLE4997E2TB-ND; Supplier 2: Digi-Key; Supplier Part Number 2: TLE4997E2CT-ND; Supplier 3: Mouser; Supplier Part Number 3: 726-TLE4997E2; Application: Linear Hall; Halogen-free: TRUE; Package: Leaded; Packing: AMMO-PACK; Programmable: TRUE; Mounting Technology: Through Hole; ComponentLink1Description: Manufacturer URL; ComponentLink1URL: http://www.infineon.com/; ComponentLink2Description: Datasheet; ComponentLink2URL: http://www.infineon.com/dgdl/TLE4997_Data_Sheet_v2.08.pdf?folderId=db3a30431ce5fb52011d3dd6e8012582&fileId=db3a30431ce5fb52011d3e4c832a2594; ComponentLink3Description: Package Specification; ComponentLink3URL: http://www.infineon.com/cms/packages/Leaded_and_through-hole/P-PG-SSO/PG-SSO-3-10.html?__locale=en
footprint INF-PG-SSO-3-10_V (SSO, 3-Leads, Body 4.06x4.05mm, Pitch 1.27mm)
pins: 1 VDD (power) "Supply voltage / programming interface", 2 GND (power) "Ground", 3 OUT (power) "Output voltage / programming interface"

## TLE4998C3
designator U?
Programmable Linear Hall Sensor, PG-SSO-3-10, AMMO-PACK, Green; Manufacturer: Infineon; PartNumber: TLE4998C3; Green: TRUE; Interface: SPC; DatasheetVersion: Rev. 1.0; PackageVersion: V 2.08, 09/2008; PackageReference: PG-SSO-3-10; PackageDescription: 3-Pin Plastic (Green) Single Small Outline, 4.06 x 4.05 mm Body, 1.27 mm Pitch; Supplier 1: Mouser; Supplier Part Number 1: 726-TLE4998C3; Supplier 2: Digi-Key; Supplier Part Number 2: TLE4998C3-ND; Application: Linear Hall; Packing: AMMO-PACK; Programmable: TRUE; Mounting Technology: Through Hole; ComponentLink1Description: Manufacturer URL; ComponentLink1URL: http://www.infineon.com/; ComponentLink2Description: Datasheet; ComponentLink2URL: http://www.infineon.com/dgdl/TLE4998C_Data_Sheet_Rev1.0.pdf?folderId=db3a30431ce5fb52011d3dd6e8012582&fileId=db3a3043243b5f170124bf6406be59d4; ComponentLink3Description: Package Specification; ComponentLink3URL: http://www.infineon.com/dgdl/TLE4997_Data_Sheet_v2.08.pdf?folderId=db3a30431ce5fb52011d3dd6e8012582&fileId=db3a30431ce5fb52011d3e4c832a2594
footprint INF-PG-SSO-3-10_V (SSO, 3-Leads, Body 4.06x4.05mm, Pitch 1.27mm)
pins: 1 VDD (power) "Supply voltage / programming interface", 2 GND (power) "Ground", 3 OUT (io) "Output / programming interface"

## TLE4998C4
designator U?
Programmable Linear Hall Sensor, PG-SSO-4-1, AMMO-PACK, Green; Manufacturer: Infineon; PartNumber: TLE4998C4; Green: TRUE; Interface: SPC; DatasheetVersion: Rev. 1.0; PackageReference: PG-SSO-4-1; PackageDescription: 4-Pin Plastic (Green) Single Small Outline, 5.34 x 3.71 mm Body, 1.27 mm Pitch; Supplier 1: Mouser; Supplier Part Number 1: 726-TLE4998C4; Supplier 2: Digi-Key; Supplier Part Number 2: TLE4998C4-ND; Application: Linear Hall; Packing: AMMO-PACK; Programmable: TRUE; Mounting Technology: Through Hole; ComponentLink1Description: Manufacturer URL; ComponentLink1URL: http://www.infineon.com/; ComponentLink2Description: Datasheet; ComponentLink2URL: http://www.infineon.com/dgdl/TLE4998C4_Data_Sheet_Rev1.0.pdf?folderId=db3a30431ce5fb52011d3dd6e8012582&fileId=db3a304325afd6e00126328423dc648f; ComponentLink3Description: Package Specification; ComponentLink3URL: http://www.infineon.com/cms/packages/Leaded_and_through-hole/P-PG-SSO/PG-SSO-4-1.html?__locale=en
footprint INF-PG-SSO-4-1_V (SSO, 4-Leads, Body 5.34x3.71mm, Pitch 1.27mm)
pins: 1 TST (in) "Test pin (connection to GND is recommended)", 2 VDD (power) "Supply voltage / programming interface", 3 GND (power) "Ground", 4 OUT (io) "Output / programming interface"

## TLE4998P3
designator U?
Programmable Linear Hall Sensor, PG-SSO-3-10, AMMO-PACK, Green; Manufacturer: Infineon; PartNumber: TLE4998P3; Green: TRUE; Interface: PWM; DatasheetVersion: Rev. 1.0; PackageVersion: V 2.08, 09/2008; PackageReference: PG-SSO-3-10; PackageDescription: 3-Pin Plastic (Green) Single Small Outline, 4.06 x 4.05 mm Body, 1.27 mm Pitch; Supplier 1: Mouser; Supplier Part Number 1: 726-TLE4998P3; Supplier 2: Digi-Key; Supplier Part Number 2: TLE4998P3-ND; Application: Linear Hall; Halogen-free: TRUE; Packing: AMMO-PACK; Programmable: TRUE; Mounting Technology: Through Hole; ComponentLink1Description: Manufacturer URL; ComponentLink1URL: http://www.infineon.com/; ComponentLink2Description: Datasheet; ComponentLink2URL: http://www.infineon.com/dgdl/TLE4998P_Data_Sheet_V1.0.pdf?folderId=db3a30431ce5fb52011d3dd6e8012582&fileId=db3a30431ce5fb52011d3e9a9f3425b1; ComponentLink3Description: Package Specification; ComponentLink3URL: http://www.infineon.com/dgdl/TLE4997_Data_Sheet_v2.08.pdf?folderId=db3a30431ce5fb52011d3dd6e8012582&fileId=db3a30431ce5fb52011d3e4c832a2594
footprint INF-PG-SSO-3-10_V (SSO, 3-Leads, Body 4.06x4.05mm, Pitch 1.27mm)
pins: 1 VDD (power) "Supply voltage / programming interface", 2 GND (power) "Ground", 3 OUT (io) "Output / programming interface"

## TLE4998P4
designator U?
Programmable Linear Hall Sensor, PG-SSO-4-1, AMMO-PACK, Green; Manufacturer: Infineon; PartNumber: TLE4998P4; Green: TRUE; Interface: PWM; DatasheetVersion: Rev. 1.0; PackageReference: PG-SSO-4-1; PackageDescription: 4-Pin Plastic (Green) Single Small Outline, 5.34 x 3.71 mm Body, 1.27 mm Pitch; Supplier 1: Mouser; Supplier Part Number 1: 726-TLE4998P4; Supplier 2: Digi-Key; Supplier Part Number 2: TLE4998P4-ND; Application: Linear Hall; Packing: AMMO-PACK; Programmable: TRUE; Mounting Technology: Through Hole; ComponentLink1Description: Manufacturer URL; ComponentLink1URL: http://www.infineon.com/; ComponentLink2Description: Datasheet; ComponentLink2URL: http://www.infineon.com/dgdl/TLE4998P_Data_Sheet_V1.0.pdf?folderId=db3a30431ce5fb52011d3dd6e8012582&fileId=db3a30431ce5fb52011d3e9a9f3425b1; ComponentLink3Description: Package Specification; ComponentLink3URL: http://www.infineon.com/cms/packages/Leaded_and_through-hole/P-PG-SSO/PG-SSO-4-1.html?__locale=en
footprint INF-PG-SSO-4-1_V (SSO, 4-Leads, Body 5.34x3.71mm, Pitch 1.27mm)
pins: 1 TST (in) "Test pin (connection to GND is recommended)", 2 VDD (power) "Supply voltage / programming interface", 3 GND (power) "Ground", 4 OUT (io) "Output / programming interface"

## TLE4998S3
designator U?
Programmable Linear Hall Sensor, PG-SSO-3-10, AMMO-PACK, Green; Manufacturer: Infineon; PartNumber: TLE4998S3; Green: TRUE; Interface: SENT; DatasheetVersion: Rev. 1.0; PackageVersion: V 2.08, 09/2008; PackageReference: PG-SSO-3-10; PackageDescription: 3-Pin Plastic (Green) Single Small Outline, 4.06 x 4.05 mm Body, 1.27 mm Pitch; Supplier 1: Mouser; Supplier Part Number 1: 726-TLE4998S3; Supplier 2: Digi-Key; Supplier Part Number 2: TLE4998S3-ND; Application: Linear Hall; Halogen-free: TRUE; Packing: AMMO-PACK; Programmable: TRUE; Mounting Technology: Through Hole; ComponentLink1Description: Manufacturer URL; ComponentLink1URL: http://www.infineon.com/; ComponentLink2Description: Datasheet; ComponentLink2URL: http://www.infineon.com/dgdl/TLE4998S_Data_Sheet_V1.0.pdf?folderId=db3a30431ce5fb52011d3dd6e8012582&fileId=db3a30431ce5fb52011d3ec7bd4c25bd; ComponentLink3Description: Package Specification; ComponentLink3URL: http://www.infineon.com/dgdl/TLE4997_Data_Sheet_v2.08.pdf?folderId=db3a30431ce5fb52011d3dd6e8012582&fileId=db3a30431ce5fb52011d3e4c832a2594
footprint INF-PG-SSO-3-10_V (SSO, 3-Leads, Body 4.06x4.05mm, Pitch 1.27mm)
pins: 1 VDD (power) "Supply voltage / programming interface", 2 GND (power) "Ground", 3 OUT (io) "Output / programming interface"

## TLE4998S4
designator U?
Programmable Linear Hall Sensor, PG-SSO-4-1, AMMO-PACK, Green; Manufacturer: Infineon; PartNumber: TLE4998S4; Green: TRUE; Interface: SENT; DatasheetVersion: Rev. 1.0; PackageReference: PG-SSO-4-1; PackageDescription: 4-Pin Plastic (Green) Single Small Outline, 5.34 x 3.71 mm Body, 1.27 mm Pitch; Supplier 1: Mouser; Supplier Part Number 1: 726-TLE4998S4; Supplier 2: Digi-Key; Supplier Part Number 2: TLE4998S4-ND; Application: Linear Hall; Packing: AMMO-PACK; Programmable: TRUE; Mounting Technology: Through Hole; ComponentLink1Description: Manufacturer URL; ComponentLink1URL: http://www.infineon.com/; ComponentLink2Description: Datasheet; ComponentLink2URL: http://www.infineon.com/dgdl/TLE4998S_Data_Sheet_V1.0.pdf?folderId=db3a30431ce5fb52011d3dd6e8012582&fileId=db3a30431ce5fb52011d3ec7bd4c25bd; ComponentLink3Description: Package Specification; ComponentLink3URL: http://www.infineon.com/cms/packages/Leaded_and_through-hole/P-PG-SSO/PG-SSO-4-1.html?__locale=en
footprint INF-PG-SSO-4-1_V (SSO, 4-Leads, Body 5.34x3.71mm, Pitch 1.27mm)
pins: 1 TST (in) "Test pin (connection to GND is recommended)", 2 VDD (power) "Supply voltage / programming interface", 3 GND (power) "Ground", 4 OUT (io) "Output / programming interface"

## TLE5009 E1000
designator U?
GMR-Based Angular Sensor, PG-DSO-8-16, Reel, Green; Manufacturer: Infineon; PartNumber: TLE5009 E1000; Green: TRUE; Interface: Analog; DatasheetVersion: Rev. 1.1; PackageVersion: Mar-07; PackageReference: PG-DSO-8-16; PackageDescription: 8-Pin Plastic (Green) Dual Small Outline Package, 4.9 x 3.9 mm Body, 1.27 mm Pitch; Supplier 1: Mouser; Supplier Part Number 1: 726-TLE5009E1000; Halogen-free: available; Packing: Reel; Mounting Technology: Surface Mount; ComponentLink1Description: Manufacturer URL; ComponentLink1URL: http://www.infineon.com/; ComponentLink2Description: Datasheet; ComponentLink2URL: http://www.infineon.com/dgdl/TLE5009_FDS_Rev.1.1.pdf?folderId=db3a30431ce5fb52011d3dd6e8012582&fileId=db3a304330f686060131421d8ddd56b0; ComponentLink3Description: Package Specification; ComponentLink3URL: http://www.infineon.com/dgdl/TLE7259-2GE_DS_rev12.pdf?folderId=db3a3043163797a6011666d32a0c0de1&fileId=db3a3043163797a6011666d4dbb80de2&location=en.Products.Automotive_ICs.Automotive_Transceivers.LIN_Transceivers.DATASHEET.TLE7259-2GE_DS_rev12.pdf
footprint INF-PG-DSO-8-16_N (SOP, 8-Leads, Body 4.9x3.9mm, Pitch 1.27mm, IPC Medium Density)
footprint INF-PG-DSO-8-16_L (SOP, 8-Leads, Body 4.9x3.9mm, Pitch 1.27mm, IPC High Density)
footprint INF-PG-DSO-8-16_M (SOP, 8-Leads, Body 4.9x3.9mm, Pitch 1.27mm, IPC Low Density)
pins: 1 COS_P (out) "Analog positive cosine output", 2 COS_N (out) "Analog negative cosine output", 3 GND2 (power) "Ground", 4 GND1 (power) "Ground", 5 VGMR (out) "GMR bridge voltage proportional to temperature. Diagnostic function.", 6 VDD (power) "Supply voltage", 7 SIN_N (out) "Analog negative sine output", 8 SIN_P (out) "Analog positive sine output"

## TLE5009 E1010
designator U?
GMR-Based Angular Sensor, PG-DSO-8-16, Reel, Green; Manufacturer: Infineon; PartNumber: TLE5009 E1010; Green: TRUE; Interface: Analog; DatasheetVersion: Rev. 1.1; PackageVersion: Mar-07; PackageReference: PG-DSO-8-16; PackageDescription: 8-Pin Plastic (Green) Dual Small Outline Package, 4.9 x 3.9 mm Body, 1.27 mm Pitch; Supplier 1: Mouser; Supplier Part Number 1: 726-TLE5009E1010; Halogen-free: available; Packing: Reel; Mounting Technology: Surface Mount; ComponentLink1Description: Manufacturer URL; ComponentLink1URL: http://www.infineon.com/; ComponentLink2Description: Datasheet; ComponentLink2URL: http://www.infineon.com/dgdl/TLE5009_FDS_Rev.1.1.pdf?folderId=db3a30431ce5fb52011d3dd6e8012582&fileId=db3a304330f686060131421d8ddd56b0; ComponentLink3Description: Package Specification; ComponentLink3URL: http://www.infineon.com/dgdl/TLE7259-2GE_DS_rev12.pdf?folderId=db3a3043163797a6011666d32a0c0de1&fileId=db3a3043163797a6011666d4dbb80de2&location=en.Products.Automotive_ICs.Automotive_Transceivers.LIN_Transceivers.DATASHEET.TLE7259-2GE_DS_rev12.pdf
footprint INF-PG-DSO-8-16_N (SOP, 8-Leads, Body 4.9x3.9mm, Pitch 1.27mm, IPC Medium Density)
footprint INF-PG-DSO-8-16_L (SOP, 8-Leads, Body 4.9x3.9mm, Pitch 1.27mm, IPC High Density)
footprint INF-PG-DSO-8-16_M (SOP, 8-Leads, Body 4.9x3.9mm, Pitch 1.27mm, IPC Low Density)
pins: 1 COS_P (out) "Analog positive cosine output", 2 COS_N (out) "Analog negative cosine output", 3 GND2 (power) "Ground", 4 GND1 (power) "Ground", 5 VGMR (out) "GMR bridge voltage proportional to temperature. Diagnostic function.", 6 VDD (power) "Supply voltage", 7 SIN_N (out) "Analog negative sine output", 8 SIN_P (out) "Analog positive sine output"

## TLE5009 E2000
designator U?
GMR-Based Angular Sensor, PG-DSO-8-16, Reel, Green; Manufacturer: Infineon; PartNumber: TLE5009 E2000; Green: TRUE; Interface: Analog; DatasheetVersion: Rev. 1.1; PackageVersion: Mar-07; PackageReference: PG-DSO-8-16; PackageDescription: 8-Pin Plastic (Green) Dual Small Outline Package, 4.9 x 3.9 mm Body, 1.27 mm Pitch; Supplier 1: Mouser; Supplier Part Number 1: 726-TLE5009E2000; Halogen-free: available; Packing: Reel; Mounting Technology: Surface Mount; ComponentLink1Description: Manufacturer URL; ComponentLink1URL: http://www.infineon.com/; ComponentLink2Description: Datasheet; ComponentLink2URL: http://www.infineon.com/dgdl/TLE5009_FDS_Rev.1.1.pdf?folderId=db3a30431ce5fb52011d3dd6e8012582&fileId=db3a304330f686060131421d8ddd56b0; ComponentLink3Description: Package Specification; ComponentLink3URL: http://www.infineon.com/dgdl/TLE7259-2GE_DS_rev12.pdf?folderId=db3a3043163797a6011666d32a0c0de1&fileId=db3a3043163797a6011666d4dbb80de2&location=en.Products.Automotive_ICs.Automotive_Transceivers.LIN_Transceivers.DATASHEET.TLE7259-2GE_DS_rev12.pdf
footprint INF-PG-DSO-8-16_N (SOP, 8-Leads, Body 4.9x3.9mm, Pitch 1.27mm, IPC Medium Density)
footprint INF-PG-DSO-8-16_L (SOP, 8-Leads, Body 4.9x3.9mm, Pitch 1.27mm, IPC High Density)
footprint INF-PG-DSO-8-16_M (SOP, 8-Leads, Body 4.9x3.9mm, Pitch 1.27mm, IPC Low Density)
pins: 1 COS_P (out) "Analog positive cosine output", 2 COS_N (out) "Analog negative cosine output", 3 GND2 (power) "Ground", 4 GND1 (power) "Ground", 5 VGMR (out) "GMR bridge voltage proportional to temperature. Diagnostic function.", 6 VDD (power) "Supply voltage", 7 SIN_N (out) "Analog negative sine output", 8 SIN_P (out) "Analog positive sine output"